# Altium integrated library Resistor.IntLib: 39 symbols
Pins are listed as number, name and electrical type; pins without a type are passive.

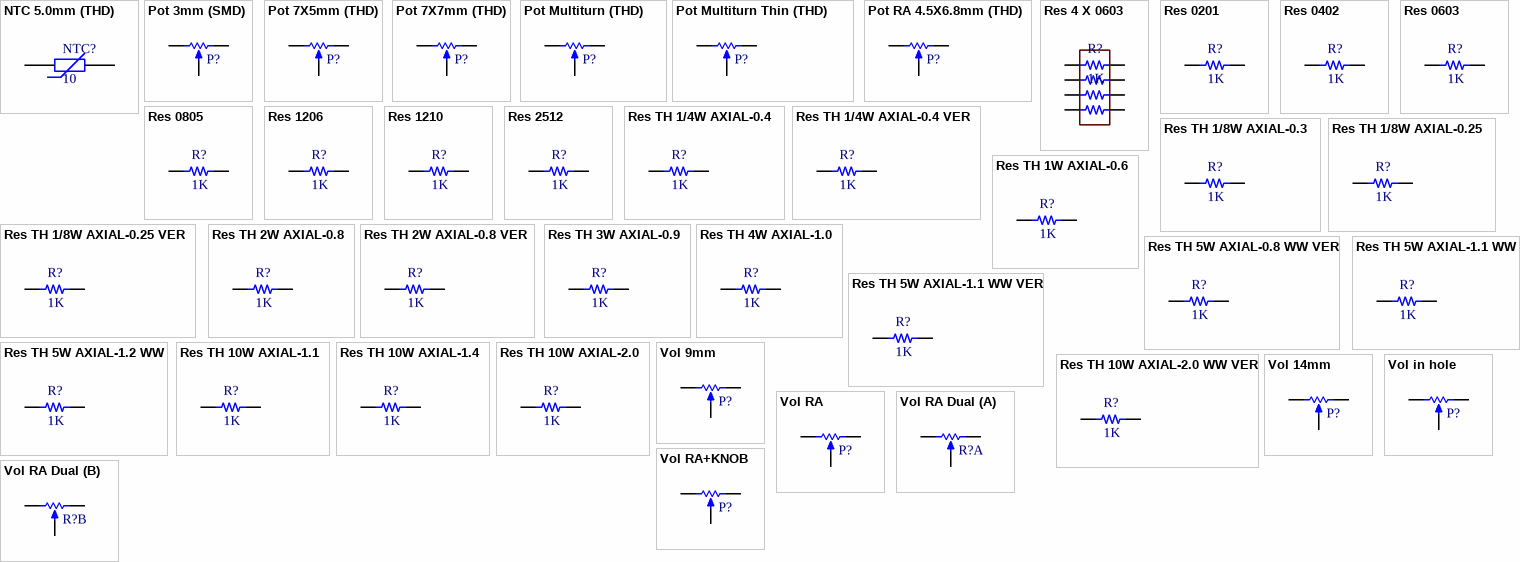
[diagram p0: symbols NTC 5.0mm (THD) to Vol RA+KNOB]

## NTC 5.0mm (THD)
designator NTC?, comment 10
VALUE: 10
footprint NTC 11X3.5 P7.6
pins: 1, 2

## Pot 3mm (SMD)
designator P?, comment 10K  (value not drawn)
VALUE: 10K
footprint POT SMD 3 (POT SMD, 3.0X3.0mm, Trimming PVG3A PVZ3A)
pins: 1 TOP, 2 TAP, 3 BOT

## Pot 7X5mm (THD)
designator P?, comment 10K  (value not drawn)
VALUE: 10K
footprint POT TH 7X5 (POT, TRIM, 7.5X5.0mm, pitch: 5.0mm)
pins: 1 TOP, 2 TAP, 3 BOT

## Pot 7X7mm (THD)
designator P?, comment 10K  (value not drawn)
VALUE: 10K
footprint POT TH 7X7 (POT, TRIM, 7.0X7.0mm, pitch: 2.5mm, MURATA, 3306F)
pins: 1 TOP, 2 TAP, 3 BOT

## Pot Multiturn (THD)
designator P?, comment 10K  (value not drawn)
VALUE: 10K
footprint POT MULTITURN (POT, TRIM, 10.0X5.0mm, pitch: 2.5mm 3299W 3296W S64W)
pins: 1 TOP, 2 TAP, 3 BOT

## Pot Multiturn Thin (THD)
designator P?, comment 10K  (value not drawn)
VALUE: 10K
footprint POT MULTITURN THIN (POT, TRIM, 10.0X5.0mm, pitch: 2.5mm 3299W 3296W S64W)
pins: 1 TOP, 2 TAP, 3 BOT

## Pot RA 4.5X6.8mm (THD)
designator P?, comment 10K  (value not drawn)
VALUE: 10K
footprint POT TH RA 4.5X6.8 (POT, TRIM, 4.5X6.8mm 3306W)
pins: 1 TOP, 2 TAP, 3 BOT

## Res 4 X 0603
designator R?, comment 1K
SMT Resistor; PartNumber: RTA03-4D???JTP; VALUE: 1K
footprint RES PACK 4X0603
pins: 1, 2, 3, 4, 5, 6, 7, 8

## Res 0201
designator R?, comment 1K
SMT Resistor; VALUE: 1K
footprint RES 0201_0603 (Chip Resistor, 2-Leads, Body 0.60x0.30mm, IPC Medium Density)
pins: 1, 2

## Res 0402
designator R?, comment 1K
SMT Resistor; VALUE: 1K
footprint RES 0402_1005 (Chip Resistor, 2-Leads, Body 1.0x0.5mm, IPC Medium Density)
pins: 1, 2

## Res 0603
designator R?, comment 1K
SMT Resistor; VALUE: 1K
footprint RES 0603_1608 (Chip Resistor, 2-Leads, Body 1.60x0.80mm, IPC Medium Density)
pins: 1, 2

## Res 0805
designator R?, comment 1K
SMT Resistor; VALUE: 1K
footprint RES 0805_2012 (Chip Resistor, 2-Leads, Body 2.00x1.25mm, IPC Medium Density)
pins: 1, 2

## Res 1206
designator R?, comment 1K
SMT Resistor; VALUE: 1K
footprint RES 1206_3216 (Chip Resistor, 2-Leads, Body 3.13x1.55mm, IPC Medium Density)
pins: 1, 2

## Res 1210
designator R?, comment 1K
SMT Resistor; VALUE: 1K
footprint RES 1210_3225 (Chip Resistor, 2-Leads, Body 3.1x2.6mm, IPC Medium Density)
pins: 1, 2

## Res 2512
designator R?, comment 1K
SMT Resistor; VALUE: 1K
footprint RES 2512_6432 (Chip Resistor, 2-Leads, Body 6.30x3.15mm, IPC Medium Density)
pins: 1, 2

## Res TH 1/4W AXIAL-0.4
designator R?, comment 1K
TH Resistor; VALUE: 1K
footprint RES TH 1/4W AXIAL-0.4 (RESISTOR 1/4 WATT, AXIAL0.4)
pins: 1, 2

## Res TH 1/4W AXIAL-0.4 VER
designator R?, comment 1K
TH Resistor; VALUE: 1K
footprint RES TH 1/4W AXIAL-0.4 VER (RESISTOR 1/4 WATT, AXIAL0.4)
pins: 1, 2

## Res TH 1/8W AXIAL-0.3
designator R?, comment 1K
TH Resistor; VALUE: 1K
footprint RES TH 1/8W AXIAL-0.3 (RESISTOR 1/8 WATT, AXIAL0.3 INCH SPACING)
pins: 1, 2

## Res TH 1/8W AXIAL-0.25
designator R?, comment 1K
TH Resistor; VALUE: 1K
footprint RES TH 1/8W AXIAL-0.25 (RESISTOR 1/8 WATT, AXIAL0.25)
pins: 1, 2

## Res TH 1/8W AXIAL-0.25 VER
designator R?, comment 1K
TH Resistor; VALUE: 1K
footprint RES TH 1/8W AXIAL-0.25 VER (RESISTOR 1/8 WATT, AXIAL0.25)
pins: 1, 2

## Res TH 1W AXIAL-0.6
designator R?, comment 1K
TH Resistor; VALUE: 1K
footprint RES TH 1W AXIAL-0.6 (RESISTOR 1 WATT, AXIAL0.6)
pins: 1, 2

## Res TH 2W AXIAL-0.8
designator R?, comment 1K
TH Resistor; VALUE: 1K
footprint RES TH 2W AXIAL-0.8 (RESISTOR 2 WATT, AXIAL0.8)
pins: 1, 2

## Res TH 2W AXIAL-0.8 VER
designator R?, comment 1K
TH Resistor; VALUE: 1K
footprint RES TH 2W AXIAL-0.8 VER (RESISTOR 2 WATT, AXIAL0.8)
pins: 1, 2

## Res TH 3W AXIAL-0.9
designator R?, comment 1K
TH Resistor; VALUE: 1K
footprint RES TH 3W AXIAL-0.9 (RESISTOR 3 WATT, AXIAL0.9)
pins: 1, 2

## Res TH 4W AXIAL-1.0
designator R?, comment 1K
TH Resistor; VALUE: 1K
footprint RES TH 4W AXIAL-1.0 (RESISTOR 4 WATT, AXIAL1.0)
pins: 1, 2

## Res TH 5W AXIAL-0.8 WW VER
designator R?, comment 1K
TH Resistor; VALUE: 1K
footprint RES TH 5W AXIAL-0.8 WW VER (RESISTOR 5 WATT, Wirewound)
pins: 1, 2

## Res TH 5W AXIAL-1.1 WW
designator R?, comment 1K
TH Resistor; VALUE: 1K
footprint RES TH 5W AXIAL-1.1 WW (RESISTOR 5 WATT, AXIAL1.1 Wirewound)
pins: 1, 2

## Res TH 5W AXIAL-1.1 WW VER
designator R?, comment 1K
TH Resistor; VALUE: 1K
footprint RES TH 5W AXIAL-1.1 WW VER (RESISTOR 5 WATT, AXIAL1.1 Wirewound)
pins: 1, 2

## Res TH 5W AXIAL-1.2 WW
designator R?, comment 1K
TH Resistor; VALUE: 1K
footprint RES TH 5W AXIAL-1.2 WW (RESISTOR 5 WATT, Wirewound)
pins: 1, 2

## Res TH 10W AXIAL-1.1
designator R?, comment 1K
TH Resistor; VALUE: 1K
footprint RES TH 10W AXIAL-1.1 (RESISTOR 10 WATT, AXIAL1.1)
pins: 1, 2

## Res TH 10W AXIAL-1.4
designator R?, comment 1K
TH Resistor; VALUE: 1K
footprint RES TH 10W AXIAL-1.4 (RESISTOR 10 WATT, AXIAL1.4)
pins: 1, 2

## Res TH 10W AXIAL-2.0
designator R?, comment 1K
TH Resistor; VALUE: 1K
footprint RES TH 10W AXIAL-2.0 (RESISTOR 10 WATT, AXIAL2.0)
pins: 1, 2

## Res TH 10W AXIAL-2.0 WW VER
designator R?, comment 1K
TH Resistor; VALUE: 1K
footprint RES TH 10W AXIAL-2.0 WW VER (RESISTOR 10 WATT, Wirewound)
pins: 1, 2

## Vol 9mm
designator P?, comment 10K  (value not drawn)
VALUE: 10K
footprint VOL 9 (VOULME  9mm Alpha Alps, RV09ACF EVUF)
pins: 1 TOP, 2 TAP, 3 BOT

## Vol 14mm
designator P?
VALUE: 10K
footprint VOL 14 (VOULME  14mm, RV141F-40E3)
pins: 1 TOP, 2 TAP, 3 BOT

## Vol in hole
designator P?, comment 10K  (value not drawn)
VALUE: 10K
footprint VOL IN HOLE
pins: 1 TOP, 2 TAP, 3 BOT

## Vol RA
designator P?, comment 10K  (value not drawn)
VALUE: 10K
footprint VOL RA (VOULME RIGHT ANGLE)
pins: 1 TOP, 2 TAP, 3 BOT

## Vol RA Dual
designator R?
VALUE: 10K
footprint VOL RA DUAL (VOULME RIGHT ANGLE DUAL 3RP/1610G)
part A pins: A1 TOP, A2 TAP, A3 BOT
part B pins: B1 TOP, B2 TAP, B3 BOT

## Vol RA+KNOB
designator P?, comment 10K  (value not drawn)
VALUE: 10K
footprint VOL RA KNOB (VOULME RIGHT ANGLE)
pins: 1 TOP, 2 TAP, 3 BOT